# EAGLE library part MCP1407 (library Microchip)
6A High-Speed Power MOSFET Driver
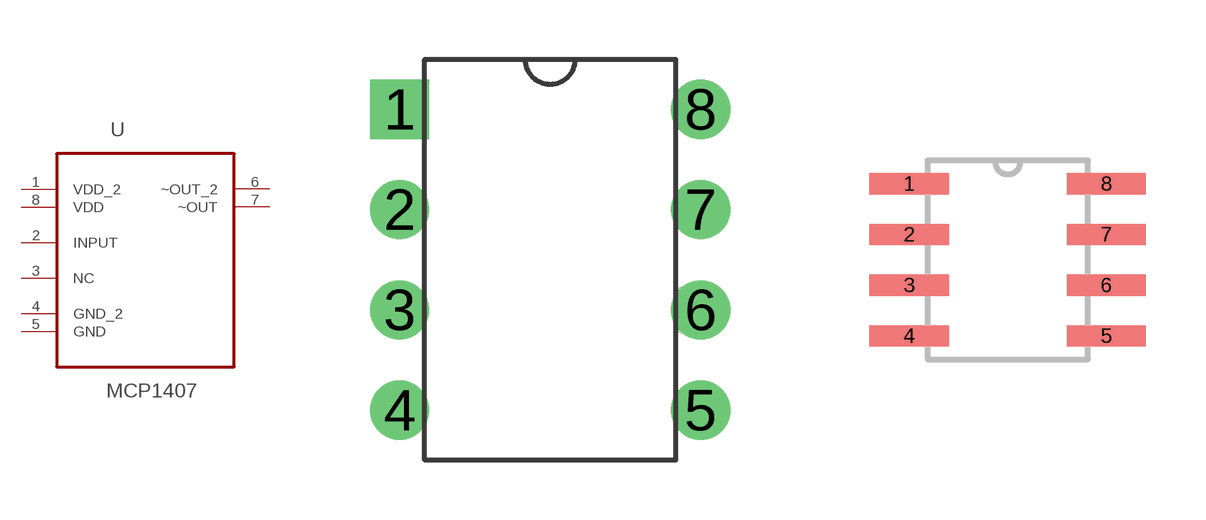
[diagram p4: symbol with the pads of DIP254P762X432-8; footprints DIP254P762X432-8, SOIC127P600X175-8N]

Designator prefix -

## MCP1407/PDIP  [DIP254P762X432-8]
1  VDD_2  pwr
2  INPUT  in
3  NC  nc
4  GND_2  pas
5  GND  pas
6  ~OUT_2  out
7  ~OUT  out
8  VDD  pwr

## MCP1407/SOIC  [SOIC127P600X175-8N]
1  VDD  pwr
2  INPUT  in
3  NC  nc
4  GND  pas
5  GND_2  pas
6  ~OUT  out
7  ~OUT_2  out
8  VDD_2  pwr

## Footprint DIP254P762X432-8 (pad centres in mm)
drill 0.991 square: 1 -7.62,7.62
drill 0.991: 2 -7.62,5.08; 3 -7.62,2.54; 4 -7.62,0; 5 0,0; 6 0,2.54; 7 0,5.08; 8 0,7.62

## Footprint SOIC127P600X175-8N (pad centres in mm)
smd 1.981 x 0.533: 1 -2.464,1.905; 2 -2.464,0.635; 3 -2.464,-0.635; 4 -2.464,-1.905; 5 2.464,-1.905; 6 2.464,-0.635; 7 2.464,0.635; 8 2.464,1.905